# EAGLE library part OPA357 (library 1_spektrak)
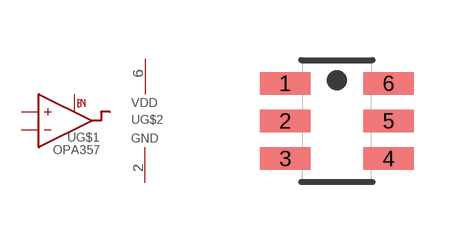
[diagram p26: symbol with the pads of SOT23-6; footprint SOT23-6]

Designator prefix U; gates G$1=OPAMP G$2=PWRGND

## OPA357  [SOT23-6]
1  G$1:OUT  out
2  G$2:GND  pwr
3  G$1:IN+  in
4  G$1:IN-  in
5  G$1:EN  in
6  G$2:VDD  pwr

## Footprint SOT23-6 (pad centres in mm)
smd 1.27 x 0.559: 1 -1.295,0.94; 2 -1.295,0; 3 -1.295,-0.94; 4 1.295,-0.94; 5 1.295,0; 6 1.295,0.94